# Altium footprint library 排针-排母.PcbLib: 177 footprints (part 8 of 12)
Each footprint in its own frame and in the unit in brackets; x right, y up, seen from the top. Pads: shape width x height; smd on the part's side, far side on the other; paste and mask are expansions set on the pad; w line width, h text height; cw(c..) or ccw(c..) is an arc to the next point about the centre after c.
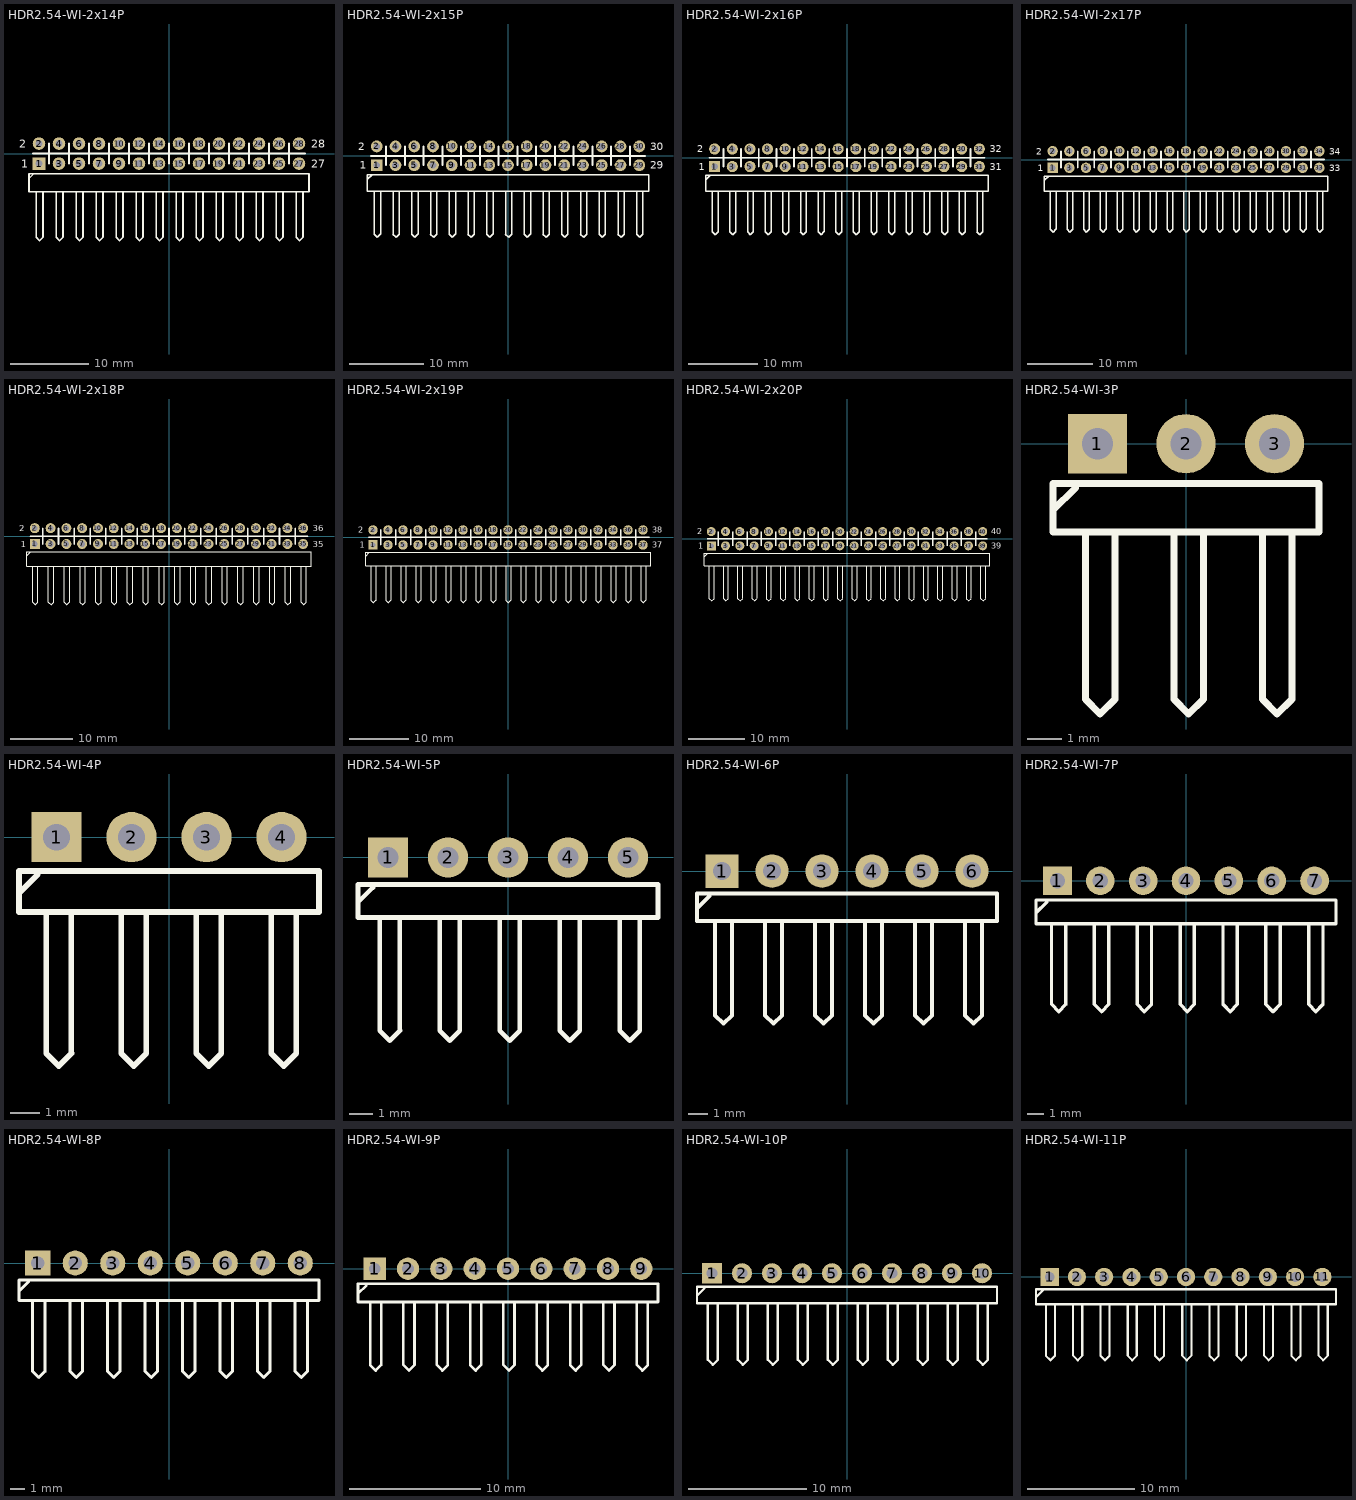
[diagram p7: the footprints below, top view; thin cyan lines are the x and y axes]

## HDR2.54-WI-2x14P [mm] "双排弯脚排针，14x2脚"
pads (28):
  rect 1.6x1.6 hole 0.9: 1(-16.51,-1.27)
  round 1.6 hole 0.9: 2(-16.51,1.27) 3(-13.97,-1.27) 4(-13.97,1.27) 5(-11.43,-1.27) 6(-11.43,1.27) 7(-8.89,-1.27) 8(-8.89,1.27) 9(-6.35,-1.27) 10(-6.35,1.27) 11(-3.81,-1.27) 12(-3.81,1.27) 13(-1.27,-1.27) 14(-1.27,1.27) 15(1.27,-1.27) 16(1.27,1.27) 17(3.81,-1.27) 18(3.81,1.27) 19(6.35,-1.27) 20(6.35,1.27) 21(8.89,-1.27) 22(8.89,1.27) 23(11.43,-1.27) 24(11.43,1.27) 25(13.97,-1.27) 26(13.97,1.27) 27(16.51,-1.27) 28(16.51,1.27)
Top Overlay:
  lines w0.2: -17.78,-3.175 -17.145,-2.54 ; -16.858,-10.634 -16.435,-11.057 -16.011,-10.634 -16.002,-10.625 -16.002,-4.826 ; -16.849,-10.634 -16.849,-4.826 ; -14.318,-10.634 -13.895,-11.057 -13.471,-10.634 ; -14.309,-10.634 -14.309,-4.826 ; -13.462,-10.634 -13.462,-4.826 ; -11.778,-10.634 -11.355,-11.057 -10.931,-10.634 ; -11.769,-10.634 -11.769,-4.826 ; -10.922,-10.634 -10.922,-4.826 ; -9.238,-10.634 -8.815,-11.057 -8.391,-10.634 ; -9.229,-10.634 -9.229,-4.826 ; -8.382,-10.634 -8.382,-4.826 ; -6.698,-10.634 -6.275,-11.057 -5.851,-10.634 ; -6.689,-10.634 -6.689,-4.826 ; -5.842,-10.634 -5.842,-4.826 ; -4.158,-10.634 -3.735,-11.057 -3.311,-10.634 ; -4.149,-10.634 -4.149,-4.826 ; -3.302,-10.634 -3.302,-4.826 ; -1.618,-10.634 -1.195,-11.057 -0.771,-10.634 ; -1.609,-10.634 -1.609,-4.826 ; -0.762,-10.634 -0.762,-4.826 ; 0.922,-10.634 1.345,-11.057 1.769,-10.634 ; 0.931,-10.634 0.931,-4.826 ; 1.778,-10.634 1.778,-4.826 ; 3.462,-10.634 3.885,-11.057 4.309,-10.634 ; 3.471,-10.634 3.471,-4.826 ; 4.318,-10.634 4.318,-4.826 ; 6.002,-10.634 6.425,-11.057 6.849,-10.634 ; 6.011,-10.634 6.011,-4.826 ; 6.858,-10.634 6.858,-4.826 ; 8.542,-10.634 8.965,-11.057 9.389,-10.634 ; 8.551,-10.634 8.551,-4.826 ; 9.398,-10.634 9.398,-4.826 ; 11.082,-10.634 11.505,-11.057 11.929,-10.634 ; 11.091,-10.634 11.091,-4.826 ; 11.938,-10.634 11.938,-4.826 ; 13.622,-10.634 14.045,-11.057 14.469,-10.634 ; 13.631,-10.634 13.631,-4.826 ; 14.478,-10.634 14.478,-4.826 ; 16.162,-10.634 16.585,-11.057 17.009,-10.634 ; 16.171,-10.634 16.171,-4.826 ; 17.018,-10.634 17.018,-4.826 ; -17.78,-4.826 -17.78,-2.54 17.78,-2.54 17.78,-4.826 -17.78,-4.826
  lines w0.254: -17.272,0 17.272,0 ; -15.24,-1.27 -15.24,1.27 ; -12.7,-1.27 -12.7,1.27 ; -10.16,-1.27 -10.16,1.27 ; -7.62,-1.27 -7.62,1.27 ; -5.08,-1.27 -5.08,1.27 ; -2.54,-1.27 -2.54,1.27 ; 0,-1.27 0,1.27 ; 2.54,-1.27 2.54,1.27 ; 5.08,-1.27 5.08,1.27 ; 7.62,-1.27 7.62,1.27 ; 10.16,-1.27 10.16,1.27 ; 12.7,-1.27 12.7,1.27 ; 15.24,-1.27 15.24,1.27
  text "28" at 18.034,0.762 h1.02
  text "27" at 18.034,-1.778 h1.02
  text "1" at -18.796,-1.778 h1.02
  text "2" at -19.05,0.762 h1.02
Bottom Overlay:
  lines w0.254: -17.272,0 17.272,0 ; -15.24,-1.27 -15.24,1.27 ; -12.7,-1.27 -12.7,1.27 ; -10.16,-1.27 -10.16,1.27 ; -7.62,-1.27 -7.62,1.27 ; -5.08,-1.27 -5.08,1.27 ; -2.54,-1.27 -2.54,1.27 ; 0,-1.27 0,1.27 ; 2.54,-1.27 2.54,1.27 ; 5.08,-1.27 5.08,1.27 ; 7.62,-1.27 7.62,1.27 ; 10.16,-1.27 10.16,1.27 ; 12.7,-1.27 12.7,1.27 ; 15.24,-1.27 15.24,1.27
3D body: height 5.1, standoff -3, extent -7.62,-11.23 -5.08,1.62
3D body: height 5.1, standoff -3, extent -12.7,-11.23 -10.16,1.62
3D body: height 5.1, standoff -3, extent -10.16,-11.23 -7.62,1.62
3D body: height 5.1, standoff -3, extent -17.78,-11.23 -15.24,1.62
3D body: height 5.1, standoff -3, extent -15.24,-11.23 -12.7,1.62
3D body: height 5.1, standoff -3, extent 5.08,-11.23 7.62,1.62
3D body: height 5.1, standoff -3, extent 0,-11.23 2.54,1.62
3D body: height 5.1, standoff -3, extent 2.54,-11.23 5.08,1.62
3D body: height 5.1, standoff -3, extent -5.08,-11.23 -2.54,1.62
3D body: height 5.1, standoff -3, extent -2.54,-11.23 0,1.62
3D body: height 5.1, standoff -3, extent 12.7,-11.23 15.24,1.62
3D body: height 5.1, standoff -3, extent 15.24,-11.23 17.78,1.62
3D body: height 5.1, standoff -3, extent 7.62,-11.23 10.16,1.62
3D body: height 5.1, standoff -3, extent 10.16,-11.23 12.7,1.62

## HDR2.54-WI-2x15P [mm] "双排弯脚排针，15x2脚"
pads (30):
  rect 1.6x1.6 hole 0.9: 1(-17.78,-1.27)
  round 1.6 hole 0.9: 2(-17.78,1.27) 3(-15.24,-1.27) 4(-15.24,1.27) 5(-12.7,-1.27) 6(-12.7,1.27) 7(-10.16,-1.27) 8(-10.16,1.27) 9(-7.62,-1.27) 10(-7.62,1.27) 11(-5.08,-1.27) 12(-5.08,1.27) 13(-2.54,-1.27) 14(-2.54,1.27) 15(0,-1.27) 16(0,1.27) 17(2.54,-1.27) 18(2.54,1.27) 19(5.08,-1.27) 20(5.08,1.27) 21(7.62,-1.27) 22(7.62,1.27) 23(10.16,-1.27) 24(10.16,1.27) 25(12.7,-1.27) 26(12.7,1.27) 27(15.24,-1.27) 28(15.24,1.27) 29(17.78,-1.27) 30(17.78,1.27)
Top Overlay:
  lines w0.2: -19.05,-3.175 -18.415,-2.54 ; -18.128,-10.634 -17.705,-11.057 -17.281,-10.634 -17.272,-10.625 -17.272,-4.826 ; -18.119,-10.634 -18.119,-4.826 ; -15.588,-10.634 -15.165,-11.057 -14.741,-10.634 ; -15.579,-10.634 -15.579,-4.826 ; -14.732,-10.634 -14.732,-4.826 ; -13.048,-10.634 -12.625,-11.057 -12.201,-10.634 ; -13.039,-10.634 -13.039,-4.826 ; -12.192,-10.634 -12.192,-4.826 ; -10.508,-10.634 -10.085,-11.057 -9.661,-10.634 ; -10.499,-10.634 -10.499,-4.826 ; -9.652,-10.634 -9.652,-4.826 ; -7.968,-10.634 -7.545,-11.057 -7.121,-10.634 ; -7.959,-10.634 -7.959,-4.826 ; -7.112,-10.634 -7.112,-4.826 ; -5.428,-10.634 -5.005,-11.057 -4.581,-10.634 ; -5.419,-10.634 -5.419,-4.826 ; -4.572,-10.634 -4.572,-4.826 ; -2.888,-10.634 -2.465,-11.057 -2.041,-10.634 ; -2.879,-10.634 -2.879,-4.826 ; -2.032,-10.634 -2.032,-4.826 ; -0.348,-10.634 0.075,-11.057 0.499,-10.634 ; -0.339,-10.634 -0.339,-4.826 ; 0.508,-10.634 0.508,-4.826 ; 2.192,-10.634 2.615,-11.057 3.039,-10.634 ; 2.201,-10.634 2.201,-4.826 ; 3.048,-10.634 3.048,-4.826 ; 4.732,-10.634 5.155,-11.057 5.579,-10.634 ; 4.741,-10.634 4.741,-4.826 ; 5.588,-10.634 5.588,-4.826 ; 7.272,-10.634 7.695,-11.057 8.119,-10.634 ; 7.281,-10.634 7.281,-4.826 ; 8.128,-10.634 8.128,-4.826 ; 9.812,-10.634 10.235,-11.057 10.659,-10.634 ; 9.821,-10.634 9.821,-4.826 ; 10.668,-10.634 10.668,-4.826 ; 12.352,-10.634 12.775,-11.057 13.199,-10.634 ; 12.361,-10.634 12.361,-4.826 ; 13.208,-10.634 13.208,-4.826 ; 14.892,-10.634 15.315,-11.057 15.739,-10.634 ; 14.901,-10.634 14.901,-4.826 ; 15.748,-10.634 15.748,-4.826 ; 17.432,-10.634 17.855,-11.057 18.279,-10.634 ; 17.441,-10.634 17.441,-4.826 ; 18.288,-10.634 18.288,-4.826 ; -19.05,-4.826 19.05,-4.826 19.05,-2.54 -19.05,-2.54 -19.05,-4.826
  lines w0.254: -18.542,0 18.542,0 ; -16.51,-1.27 -16.51,1.27 ; -13.97,-1.27 -13.97,1.27 ; -11.43,-1.27 -11.43,1.27 ; -8.89,-1.27 -8.89,1.27 ; -6.35,-1.27 -6.35,1.27 ; -3.81,-1.27 -3.81,1.27 ; -1.27,-1.27 -1.27,1.27 ; 1.27,-1.27 1.27,1.27 ; 3.81,-1.27 3.81,1.27 ; 6.35,-1.27 6.35,1.27 ; 8.89,-1.27 8.89,1.27 ; 11.43,-1.27 11.43,1.27 ; 13.97,-1.27 13.97,1.27 ; 16.51,-1.27 16.51,1.27 16.51,-1.27
  text "30" at 19.304,0.762 h1.02
  text "29" at 19.304,-1.778 h1.02
  text "2" at -20.32,0.762 h1.02
  text "1" at -20.066,-1.778 h1.02
Bottom Overlay:
  lines w0.254: -18.542,0 18.542,0 ; -16.51,-1.27 -16.51,1.27 ; -13.97,-1.27 -13.97,1.27 ; -11.43,-1.27 -11.43,1.27 ; -8.89,-1.27 -8.89,1.27 ; -6.35,-1.27 -6.35,1.27 ; -3.81,-1.27 -3.81,1.27 ; -1.27,-1.27 -1.27,1.27 ; 1.27,-1.27 1.27,1.27 ; 3.81,-1.27 3.81,1.27 ; 6.35,-1.27 6.35,1.27 ; 8.89,-1.27 8.89,1.27 ; 11.43,-1.27 11.43,1.27 ; 13.97,-1.27 13.97,1.27 ; 16.51,-1.27 16.51,1.27 16.51,-1.27
3D body: height 5.1, standoff -3, extent 8.89,-11.23 11.43,1.62
3D body: height 5.1, standoff -3, extent 6.35,-11.23 8.89,1.62
3D body: height 5.1, standoff -3, extent 13.97,-11.23 16.51,1.62
3D body: height 5.1, standoff -3, extent 11.43,-11.23 13.97,1.62
3D body: height 5.1, standoff -3, extent 16.51,-11.23 19.05,1.62
3D body: height 5.1, standoff -3, extent -3.81,-11.23 -1.27,1.62
3D body: height 5.1, standoff -3, extent -6.35,-11.23 -3.81,1.62
3D body: height 5.1, standoff -3, extent 1.27,-11.23 3.81,1.62
3D body: height 5.1, standoff -3, extent -1.27,-11.23 1.27,1.62
3D body: height 5.1, standoff -3, extent 3.81,-11.23 6.35,1.62
3D body: height 5.1, standoff -3, extent -16.51,-11.23 -13.97,1.62
3D body: height 5.1, standoff -3, extent -19.05,-11.23 -16.51,1.62
3D body: height 5.1, standoff -3, extent -11.43,-11.23 -8.89,1.62
3D body: height 5.1, standoff -3, extent -13.97,-11.23 -11.43,1.62
3D body: height 5.1, standoff -3, extent -8.89,-11.23 -6.35,1.62

## HDR2.54-WI-2x16P [mm] "双排弯脚排针，16x2脚"
pads (32):
  rect 1.6x1.6 hole 0.9: 1(-19.05,-1.27)
  round 1.6 hole 0.9: 2(-19.05,1.27) 3(-16.51,-1.27) 4(-16.51,1.27) 5(-13.97,-1.27) 6(-13.97,1.27) 7(-11.43,-1.27) 8(-11.43,1.27) 9(-8.89,-1.27) 10(-8.89,1.27) 11(-6.35,-1.27) 12(-6.35,1.27) 13(-3.81,-1.27) 14(-3.81,1.27) 15(-1.27,-1.27) 16(-1.27,1.27) 17(1.27,-1.27) 18(1.27,1.27) 19(3.81,-1.27) 20(3.81,1.27) 21(6.35,-1.27) 22(6.35,1.27) 23(8.89,-1.27) 24(8.89,1.27) 25(11.43,-1.27) 26(11.43,1.27) 27(13.97,-1.27) 28(13.97,1.27) 29(16.51,-1.27) 30(16.51,1.27) 31(19.05,-1.27) 32(19.05,1.27)
Top Overlay:
  lines w0.2: -20.32,-3.175 -19.685,-2.54 ; -19.398,-10.634 -18.975,-11.057 -18.551,-10.634 -18.542,-10.625 -18.542,-4.826 ; -19.389,-10.634 -19.389,-4.826 ; -16.858,-10.634 -16.435,-11.057 -16.011,-10.634 ; -16.849,-10.634 -16.849,-4.826 ; -16.002,-10.634 -16.002,-4.826 ; -14.318,-10.634 -13.895,-11.057 -13.471,-10.634 ; -14.309,-10.634 -14.309,-4.826 ; -13.462,-10.634 -13.462,-4.826 ; -11.778,-10.634 -11.355,-11.057 -10.931,-10.634 ; -11.769,-10.634 -11.769,-4.826 ; -10.922,-10.634 -10.922,-4.826 ; -9.238,-10.634 -8.815,-11.057 -8.391,-10.634 ; -9.229,-10.634 -9.229,-4.826 ; -8.382,-10.634 -8.382,-4.826 ; -6.698,-10.634 -6.275,-11.057 -5.851,-10.634 ; -6.689,-10.634 -6.689,-4.826 ; -5.842,-10.634 -5.842,-4.826 ; -4.158,-10.634 -3.735,-11.057 -3.311,-10.634 ; -4.149,-10.634 -4.149,-4.826 ; -3.302,-10.634 -3.302,-4.826 ; -1.618,-10.634 -1.195,-11.057 -0.771,-10.634 ; -1.609,-10.634 -1.609,-4.826 ; -0.762,-10.634 -0.762,-4.826 ; 0.922,-10.634 1.345,-11.057 1.769,-10.634 ; 0.931,-10.634 0.931,-4.826 ; 1.778,-10.634 1.778,-4.826 ; 3.462,-10.634 3.885,-11.057 4.309,-10.634 ; 3.471,-10.634 3.471,-4.826 ; 4.318,-10.634 4.318,-4.826 ; 6.002,-10.634 6.425,-11.057 6.849,-10.634 ; 6.011,-10.634 6.011,-4.826 ; 6.858,-10.634 6.858,-4.826 ; 8.542,-10.634 8.965,-11.057 9.389,-10.634 ; 8.551,-10.634 8.551,-4.826 ; 9.398,-10.634 9.398,-4.826 ; 11.082,-10.634 11.505,-11.057 11.929,-10.634 ; 11.091,-10.634 11.091,-4.826 ; 11.938,-10.634 11.938,-4.826 ; 13.622,-10.634 14.045,-11.057 14.469,-10.634 ; 13.631,-10.634 13.631,-4.826 ; 14.478,-10.634 14.478,-4.826 ; 16.162,-10.634 16.585,-11.057 17.009,-10.634 ; 16.171,-10.634 16.171,-4.826 ; 17.018,-10.634 17.018,-4.826 ; 18.702,-10.634 19.125,-11.057 19.549,-10.634 ; 18.711,-10.634 18.711,-4.826 ; 19.558,-10.634 19.558,-4.826 ; -20.32,-4.826 -20.32,-2.54 20.32,-2.54 20.32,-4.826 -20.32,-4.826
  lines w0.254: -19.812,0 19.812,0 ; -17.78,-1.27 -17.78,1.27 ; -15.24,-1.27 -15.24,1.27 ; -12.7,-1.27 -12.7,1.27 ; -10.16,-1.27 -10.16,1.27 ; -7.62,-1.27 -7.62,1.27 ; -5.08,-1.27 -5.08,1.27 ; -2.54,-1.27 -2.54,1.27 ; 0,-1.27 0,1.27 ; 2.54,-1.27 2.54,1.27 ; 5.08,-1.27 5.08,1.27 ; 7.62,-1.27 7.62,1.27 ; 10.16,-1.27 10.16,1.27 ; 12.7,-1.27 12.7,1.27 ; 17.78,-1.27 17.78,1.27 ; 15.24,-1.27 15.24,1.27 15.24,-1.27
  text "32" at 20.574,0.762 h1.02
  text "31" at 20.574,-1.778 h1.02
  text "1" at -21.336,-1.778 h1.02
  text "2" at -21.59,0.762 h1.02
Bottom Overlay:
  lines w0.254: -19.812,0 19.812,0 ; -17.78,-1.27 -17.78,1.27 ; -15.24,-1.27 -15.24,1.27 ; -12.7,-1.27 -12.7,1.27 ; -10.16,-1.27 -10.16,1.27 ; -7.62,-1.27 -7.62,1.27 ; -5.08,-1.27 -5.08,1.27 ; -2.54,-1.27 -2.54,1.27 ; 0,-1.27 0,1.27 ; 2.54,-1.27 2.54,1.27 ; 5.08,-1.27 5.08,1.27 ; 7.62,-1.27 7.62,1.27 ; 10.16,-1.27 10.16,1.27 ; 12.7,-1.27 12.7,1.27 ; 17.78,-1.27 17.78,1.27 ; 15.24,-1.27 15.24,1.27 15.24,-1.27
3D body: height 5.1, standoff -3, extent -10.16,-11.23 -7.62,1.62
3D body: height 5.1, standoff -3, extent -15.24,-11.23 -12.7,1.62
3D body: height 5.1, standoff -3, extent -12.7,-11.23 -10.16,1.62
3D body: height 5.1, standoff -3, extent -20.32,-11.23 -17.78,1.62
3D body: height 5.1, standoff -3, extent -17.78,-11.23 -15.24,1.62
3D body: height 5.1, standoff -3, extent 2.54,-11.23 5.08,1.62
3D body: height 5.1, standoff -3, extent -2.54,-11.23 0,1.62
3D body: height 5.1, standoff -3, extent 0,-11.23 2.54,1.62
3D body: height 5.1, standoff -3, extent -7.62,-11.23 -5.08,1.62
3D body: height 5.1, standoff -3, extent -5.08,-11.23 -2.54,1.62
3D body: height 5.1, standoff -3, extent 15.24,-11.23 17.78,1.62
3D body: height 5.1, standoff -3, extent 10.16,-11.23 12.7,1.62
3D body: height 5.1, standoff -3, extent 12.7,-11.23 15.24,1.62
3D body: height 5.1, standoff -3, extent 5.08,-11.23 7.62,1.62
3D body: height 5.1, standoff -3, extent 7.62,-11.23 10.16,1.62
3D body: height 5.1, standoff -3, extent 17.78,-11.23 20.32,1.62

## HDR2.54-WI-2x17P [mm] "双排弯脚排针，17x2脚"
pads (34):
  rect 1.6x1.6 hole 0.9: 1(-20.32,-1.27)
  round 1.6 hole 0.9: 2(-20.32,1.27) 3(-17.78,-1.27) 4(-17.78,1.27) 5(-15.24,-1.27) 6(-15.24,1.27) 7(-12.7,-1.27) 8(-12.7,1.27) 9(-10.16,-1.27) 10(-10.16,1.27) 11(-7.62,-1.27) 12(-7.62,1.27) 13(-5.08,-1.27) 14(-5.08,1.27) 15(-2.54,-1.27) 16(-2.54,1.27) 17(0,-1.27) 18(0,1.27) 19(2.54,-1.27) 20(2.54,1.27) 21(5.08,-1.27) 22(5.08,1.27) 23(7.62,-1.27) 24(7.62,1.27) 25(10.16,-1.27) 26(10.16,1.27) 27(12.7,-1.27) 28(12.7,1.27) 29(15.24,-1.27) 30(15.24,1.27) 31(17.78,-1.27) 32(17.78,1.27) 33(20.32,-1.27) 34(20.32,1.27)
Top Overlay:
  lines w0.2: -21.59,-3.175 -20.955,-2.54 ; -20.668,-10.634 -20.245,-11.057 -19.821,-10.634 -19.812,-10.625 -19.812,-4.826 ; -20.659,-10.634 -20.659,-4.826 ; -18.128,-10.634 -17.705,-11.057 -17.281,-10.634 ; -18.119,-10.634 -18.119,-4.826 ; -17.272,-10.634 -17.272,-4.826 ; -15.588,-10.634 -15.165,-11.057 -14.741,-10.634 ; -15.579,-10.634 -15.579,-4.826 ; -14.732,-10.634 -14.732,-4.826 ; -13.048,-10.634 -12.625,-11.057 -12.201,-10.634 ; -13.039,-10.634 -13.039,-4.826 ; -12.192,-10.634 -12.192,-4.826 ; -10.508,-10.634 -10.085,-11.057 -9.661,-10.634 ; -10.499,-10.634 -10.499,-4.826 ; -9.652,-10.634 -9.652,-4.826 ; -7.968,-10.634 -7.545,-11.057 -7.121,-10.634 ; -7.959,-10.634 -7.959,-4.826 ; -7.112,-10.634 -7.112,-4.826 ; -5.428,-10.634 -5.005,-11.057 -4.581,-10.634 ; -5.419,-10.634 -5.419,-4.826 ; -4.572,-10.634 -4.572,-4.826 ; -2.888,-10.634 -2.465,-11.057 -2.041,-10.634 ; -2.879,-10.634 -2.879,-4.826 ; -2.032,-10.634 -2.032,-4.826 ; -0.348,-10.634 0.075,-11.057 0.499,-10.634 ; -0.339,-10.634 -0.339,-4.826 ; 0.508,-10.634 0.508,-4.826 ; 2.192,-10.634 2.615,-11.057 3.039,-10.634 ; 2.201,-10.634 2.201,-4.826 ; 3.048,-10.634 3.048,-4.826 ; 4.732,-10.634 5.155,-11.057 5.579,-10.634 ; 4.741,-10.634 4.741,-4.826 ; 5.588,-10.634 5.588,-4.826 ; 7.272,-10.634 7.695,-11.057 8.119,-10.634 ; 7.281,-10.634 7.281,-4.826 ; 8.128,-10.634 8.128,-4.826 ; 9.812,-10.634 10.235,-11.057 10.659,-10.634 ; 9.821,-10.634 9.821,-4.826 ; 10.668,-10.634 10.668,-4.826 ; 12.352,-10.634 12.775,-11.057 13.199,-10.634 ; 12.361,-10.634 12.361,-4.826 ; 13.208,-10.634 13.208,-4.826 ; 14.892,-10.634 15.315,-11.057 15.739,-10.634 ; 14.901,-10.634 14.901,-4.826 ; 15.748,-10.634 15.748,-4.826 ; 17.432,-10.634 17.855,-11.057 18.279,-10.634 ; 17.441,-10.634 17.441,-4.826 ; 18.288,-10.634 18.288,-4.826 ; 19.972,-10.634 20.395,-11.057 20.819,-10.634 ; 19.981,-10.634 19.981,-4.826 ; 20.828,-10.634 20.828,-4.826 ; -21.59,-4.826 21.59,-4.826 21.59,-2.54 -21.59,-2.54 -21.59,-4.826
  lines w0.254: -21.082,0 21.082,0 ; -19.05,-1.27 -19.05,1.27 ; -16.51,-1.27 -16.51,1.27 ; -13.97,-1.27 -13.97,1.27 ; -11.43,-1.27 -11.43,1.27 ; -8.89,-1.27 -8.89,1.27 ; -6.35,-1.27 -6.35,1.27 ; -3.81,-1.27 -3.81,1.27 ; -1.27,-1.27 -1.27,1.27 ; 1.27,-1.27 1.27,1.27 ; 3.81,-1.27 3.81,1.27 ; 6.35,-1.27 6.35,1.27 ; 8.89,-1.27 8.89,1.27 ; 11.43,-1.27 11.43,1.27 ; 16.51,-1.27 16.51,1.27 ; 19.05,-1.27 19.05,1.27 ; 13.97,-1.27 13.97,1.27 13.97,-1.27
  text "2" at -22.86,0.762 h1.02
  text "1" at -22.606,-1.778 h1.02
  text "33" at 21.844,-1.778 h1.02
  text "34" at 21.844,0.762 h1.02
Bottom Overlay:
  lines w0.254: -21.082,0 21.082,0 ; -19.05,-1.27 -19.05,1.27 ; -16.51,-1.27 -16.51,1.27 ; -13.97,-1.27 -13.97,1.27 ; -11.43,-1.27 -11.43,1.27 ; -8.89,-1.27 -8.89,1.27 ; -6.35,-1.27 -6.35,1.27 ; -3.81,-1.27 -3.81,1.27 ; -1.27,-1.27 -1.27,1.27 ; 1.27,-1.27 1.27,1.27 ; 3.81,-1.27 3.81,1.27 ; 6.35,-1.27 6.35,1.27 ; 8.89,-1.27 8.89,1.27 ; 11.43,-1.27 11.43,1.27 ; 16.51,-1.27 16.51,1.27 ; 19.05,-1.27 19.05,1.27 ; 13.97,-1.27 13.97,1.27 13.97,-1.27
3D body: height 5.1, standoff -3, extent 19.05,-11.23 21.59,1.62
3D body: height 5.1, standoff -3, extent 16.51,-11.23 19.05,1.62
3D body: height 5.1, standoff -3, extent 6.35,-11.23 8.89,1.62
3D body: height 5.1, standoff -3, extent 3.81,-11.23 6.35,1.62
3D body: height 5.1, standoff -3, extent 11.43,-11.23 13.97,1.62
3D body: height 5.1, standoff -3, extent 8.89,-11.23 11.43,1.62
3D body: height 5.1, standoff -3, extent 13.97,-11.23 16.51,1.62
3D body: height 5.1, standoff -3, extent -6.35,-11.23 -3.81,1.62
3D body: height 5.1, standoff -3, extent -8.89,-11.23 -6.35,1.62
3D body: height 5.1, standoff -3, extent -1.27,-11.23 1.27,1.62
3D body: height 5.1, standoff -3, extent -3.81,-11.23 -1.27,1.62
3D body: height 5.1, standoff -3, extent 1.27,-11.23 3.81,1.62
3D body: height 5.1, standoff -3, extent -19.05,-11.23 -16.51,1.62
3D body: height 5.1, standoff -3, extent -21.59,-11.23 -19.05,1.62
3D body: height 5.1, standoff -3, extent -13.97,-11.23 -11.43,1.62
3D body: height 5.1, standoff -3, extent -16.51,-11.23 -13.97,1.62
3D body: height 5.1, standoff -3, extent -11.43,-11.23 -8.89,1.62

## HDR2.54-WI-2x18P [mm] "双排弯脚排针，18x2脚"
pads (36):
  rect 1.6x1.6 hole 0.9: 1(-21.59,-1.27)
  round 1.6 hole 0.9: 2(-21.59,1.27) 3(-19.05,-1.27) 4(-19.05,1.27) 5(-16.51,-1.27) 6(-16.51,1.27) 7(-13.97,-1.27) 8(-13.97,1.27) 9(-11.43,-1.27) 10(-11.43,1.27) 11(-8.89,-1.27) 12(-8.89,1.27) 13(-6.35,-1.27) 14(-6.35,1.27) 15(-3.81,-1.27) 16(-3.81,1.27) 17(-1.27,-1.27) 18(-1.27,1.27) 19(1.27,-1.27) 20(1.27,1.27) 21(3.81,-1.27) 22(3.81,1.27) 23(6.35,-1.27) 24(6.35,1.27) 25(8.89,-1.27) 26(8.89,1.27) 27(11.43,-1.27) 28(11.43,1.27) 29(13.97,-1.27) 30(13.97,1.27) 31(16.51,-1.27) 32(16.51,1.27) 33(19.05,-1.27) 34(19.05,1.27) 35(21.59,-1.27) 36(21.59,1.27)
Top Overlay:
  lines w0.2: -22.86,-3.175 -22.225,-2.54 ; -21.938,-10.634 -21.515,-11.057 -21.091,-10.634 -21.082,-10.625 -21.082,-4.826 ; -21.929,-10.634 -21.929,-4.826 ; -19.398,-10.634 -18.975,-11.057 -18.551,-10.634 ; -19.389,-10.634 -19.389,-4.826 ; -18.542,-10.634 -18.542,-4.826 ; -16.858,-10.634 -16.435,-11.057 -16.011,-10.634 ; -16.849,-10.634 -16.849,-4.826 ; -16.002,-10.634 -16.002,-4.826 ; -14.318,-10.634 -13.895,-11.057 -13.471,-10.634 ; -14.309,-10.634 -14.309,-4.826 ; -13.462,-10.634 -13.462,-4.826 ; -11.778,-10.634 -11.355,-11.057 -10.931,-10.634 ; -11.769,-10.634 -11.769,-4.826 ; -10.922,-10.634 -10.922,-4.826 ; -9.238,-10.634 -8.815,-11.057 -8.391,-10.634 ; -9.229,-10.634 -9.229,-4.826 ; -8.382,-10.634 -8.382,-4.826 ; -6.698,-10.634 -6.275,-11.057 -5.851,-10.634 ; -6.689,-10.634 -6.689,-4.826 ; -5.842,-10.634 -5.842,-4.826 ; -4.158,-10.634 -3.735,-11.057 -3.311,-10.634 ; -4.149,-10.634 -4.149,-4.826 ; -3.302,-10.634 -3.302,-4.826 ; -1.618,-10.634 -1.195,-11.057 -0.771,-10.634 ; -1.609,-10.634 -1.609,-4.826 ; -0.762,-10.634 -0.762,-4.826 ; 0.922,-10.634 1.345,-11.057 1.769,-10.634 ; 0.931,-10.634 0.931,-4.826 ; 1.778,-10.634 1.778,-4.826 ; 3.462,-10.634 3.885,-11.057 4.309,-10.634 ; 3.471,-10.634 3.471,-4.826 ; 4.318,-10.634 4.318,-4.826 ; 6.002,-10.634 6.425,-11.057 6.849,-10.634 ; 6.011,-10.634 6.011,-4.826 ; 6.858,-10.634 6.858,-4.826 ; 8.542,-10.634 8.965,-11.057 9.389,-10.634 ; 8.551,-10.634 8.551,-4.826 ; 9.398,-10.634 9.398,-4.826 ; 11.082,-10.634 11.505,-11.057 11.929,-10.634 ; 11.091,-10.634 11.091,-4.826 ; 11.938,-10.634 11.938,-4.826 ; 13.622,-10.634 14.045,-11.057 14.469,-10.634 ; 13.631,-10.634 13.631,-4.826 ; 14.478,-10.634 14.478,-4.826 ; 16.162,-10.634 16.585,-11.057 17.009,-10.634 ; 16.171,-10.634 16.171,-4.826 ; 17.018,-10.634 17.018,-4.826 ; 18.702,-10.634 19.125,-11.057 19.549,-10.634 ; 18.711,-10.634 18.711,-4.826 ; 19.558,-10.634 19.558,-4.826 ; 21.242,-10.634 21.665,-11.057 22.089,-10.634 ; 21.251,-10.634 21.251,-4.826 ; 22.098,-10.634 22.098,-4.826 ; -22.86,-4.826 -22.86,-2.54 22.86,-2.54 22.86,-4.826 -22.86,-4.826
  lines w0.254: -22.352,0 22.352,0 ; -20.32,-1.27 -20.32,1.27 ; -17.78,-1.27 -17.78,1.27 ; -15.24,-1.27 -15.24,1.27 ; -12.7,-1.27 -12.7,1.27 ; -10.16,-1.27 -10.16,1.27 ; -7.62,-1.27 -7.62,1.27 ; -5.08,-1.27 -5.08,1.27 ; -2.54,-1.27 -2.54,1.27 ; 0,-1.27 0,1.27 ; 2.54,-1.27 2.54,1.27 ; 5.08,-1.27 5.08,1.27 ; 7.62,-1.27 7.62,1.27 ; 10.16,-1.27 10.16,1.27 ; 15.24,-1.27 15.24,1.27 ; 17.78,-1.27 17.78,1.27 ; 12.7,-1.27 12.7,1.27 12.7,-1.27 ; 20.32,-1.27 20.32,1.27 20.32,-1.27
  text "36" at 23.114,0.762 h1.02
  text "35" at 23.114,-1.778 h1.02
  text "1" at -23.876,-1.778 h1.02
  text "2" at -24.13,0.762 h1.02
Bottom Overlay:
  lines w0.254: -22.352,0 22.352,0 ; -20.32,-1.27 -20.32,1.27 ; -17.78,-1.27 -17.78,1.27 ; -15.24,-1.27 -15.24,1.27 ; -12.7,-1.27 -12.7,1.27 ; -10.16,-1.27 -10.16,1.27 ; -7.62,-1.27 -7.62,1.27 ; -5.08,-1.27 -5.08,1.27 ; -2.54,-1.27 -2.54,1.27 ; 0,-1.27 0,1.27 ; 2.54,-1.27 2.54,1.27 ; 5.08,-1.27 5.08,1.27 ; 7.62,-1.27 7.62,1.27 ; 10.16,-1.27 10.16,1.27 ; 15.24,-1.27 15.24,1.27 ; 17.78,-1.27 17.78,1.27 ; 12.7,-1.27 12.7,1.27 12.7,-1.27 ; 20.32,-1.27 20.32,1.27 20.32,-1.27
3D body: height 5.1, standoff -3, extent -12.7,-11.23 -10.16,1.62
3D body: height 5.1, standoff -3, extent -17.78,-11.23 -15.24,1.62
3D body: height 5.1, standoff -3, extent -15.24,-11.23 -12.7,1.62
3D body: height 5.1, standoff -3, extent -22.86,-11.23 -20.32,1.62
3D body: height 5.1, standoff -3, extent -20.32,-11.23 -17.78,1.62
3D body: height 5.1, standoff -3, extent 0,-11.23 2.54,1.62
3D body: height 5.1, standoff -3, extent -5.08,-11.23 -2.54,1.62
3D body: height 5.1, standoff -3, extent -2.54,-11.23 0,1.62
3D body: height 5.1, standoff -3, extent -10.16,-11.23 -7.62,1.62
3D body: height 5.1, standoff -3, extent -7.62,-11.23 -5.08,1.62
3D body: height 5.1, standoff -3, extent 12.7,-11.23 15.24,1.62
3D body: height 5.1, standoff -3, extent 7.62,-11.23 10.16,1.62
3D body: height 5.1, standoff -3, extent 10.16,-11.23 12.7,1.62
3D body: height 5.1, standoff -3, extent 2.54,-11.23 5.08,1.62
3D body: height 5.1, standoff -3, extent 5.08,-11.23 7.62,1.62
3D body: height 5.1, standoff -3, extent 20.32,-11.23 22.86,1.62
3D body: height 5.1, standoff -3, extent 15.24,-11.23 17.78,1.62
3D body: height 5.1, standoff -3, extent 17.78,-11.23 20.32,1.62

## HDR2.54-WI-2x19P [mm] "双排弯脚排针，19x2脚"
pads (38):
  rect 1.6x1.6 hole 0.9: 1(-22.86,-1.27)
  round 1.6 hole 0.9: 2(-22.86,1.27) 3(-20.32,-1.27) 4(-20.32,1.27) 5(-17.78,-1.27) 6(-17.78,1.27) 7(-15.24,-1.27) 8(-15.24,1.27) 9(-12.7,-1.27) 10(-12.7,1.27) 11(-10.16,-1.27) 12(-10.16,1.27) 13(-7.62,-1.27) 14(-7.62,1.27) 15(-5.08,-1.27) 16(-5.08,1.27) 17(-2.54,-1.27) 18(-2.54,1.27) 19(0,-1.27) 20(0,1.27) 21(2.54,-1.27) 22(2.54,1.27) 23(5.08,-1.27) 24(5.08,1.27) 25(7.62,-1.27) 26(7.62,1.27) 27(10.16,-1.27) 28(10.16,1.27) 29(12.7,-1.27) 30(12.7,1.27) 31(15.24,-1.27) 32(15.24,1.27) 33(17.78,-1.27) 34(17.78,1.27) 35(20.32,-1.27) 36(20.32,1.27) 37(22.86,-1.27) 38(22.86,1.27)
Top Overlay:
  lines w0.2: -24.13,-3.175 -23.495,-2.54 ; -23.208,-10.634 -22.785,-11.057 -22.361,-10.634 -22.352,-10.625 -22.352,-4.826 ; -23.199,-10.634 -23.199,-4.826 ; -20.668,-10.634 -20.245,-11.057 -19.821,-10.634 ; -20.659,-10.634 -20.659,-4.826 ; -19.812,-10.634 -19.812,-4.826 ; -18.128,-10.634 -17.705,-11.057 -17.281,-10.634 ; -18.119,-10.634 -18.119,-4.826 ; -17.272,-10.634 -17.272,-4.826 ; -15.588,-10.634 -15.165,-11.057 -14.741,-10.634 ; -15.579,-10.634 -15.579,-4.826 ; -14.732,-10.634 -14.732,-4.826 ; -13.048,-10.634 -12.625,-11.057 -12.201,-10.634 ; -13.039,-10.634 -13.039,-4.826 ; -12.192,-10.634 -12.192,-4.826 ; -10.508,-10.634 -10.085,-11.057 -9.661,-10.634 ; -10.499,-10.634 -10.499,-4.826 ; -9.652,-10.634 -9.652,-4.826 ; -7.968,-10.634 -7.545,-11.057 -7.121,-10.634 ; -7.959,-10.634 -7.959,-4.826 ; -7.112,-10.634 -7.112,-4.826 ; -5.428,-10.634 -5.005,-11.057 -4.581,-10.634 ; -5.419,-10.634 -5.419,-4.826 ; -4.572,-10.634 -4.572,-4.826 ; -2.888,-10.634 -2.465,-11.057 -2.041,-10.634 ; -2.879,-10.634 -2.879,-4.826 ; -2.032,-10.634 -2.032,-4.826 ; -0.348,-10.634 0.075,-11.057 0.499,-10.634 ; -0.339,-10.634 -0.339,-4.826 ; 0.508,-10.634 0.508,-4.826 ; 2.192,-10.634 2.615,-11.057 3.039,-10.634 ; 2.201,-10.634 2.201,-4.826 ; 3.048,-10.634 3.048,-4.826 ; 4.732,-10.634 5.155,-11.057 5.579,-10.634 ; 4.741,-10.634 4.741,-4.826 ; 5.588,-10.634 5.588,-4.826 ; 7.272,-10.634 7.695,-11.057 8.119,-10.634 ; 7.281,-10.634 7.281,-4.826 ; 8.128,-10.634 8.128,-4.826 ; 9.812,-10.634 10.235,-11.057 10.659,-10.634 ; 9.821,-10.634 9.821,-4.826 ; 10.668,-10.634 10.668,-4.826 ; 12.352,-10.634 12.775,-11.057 13.199,-10.634 ; 12.361,-10.634 12.361,-4.826 ; 13.208,-10.634 13.208,-4.826 ; 14.892,-10.634 15.315,-11.057 15.739,-10.634 ; 14.901,-10.634 14.901,-4.826 ; 15.748,-10.634 15.748,-4.826 ; 17.432,-10.634 17.855,-11.057 18.279,-10.634 ; 17.441,-10.634 17.441,-4.826 ; 18.288,-10.634 18.288,-4.826 ; 19.972,-10.634 20.395,-11.057 20.819,-10.634 ; 19.981,-10.634 19.981,-4.826 ; 20.828,-10.634 20.828,-4.826 ; 22.512,-10.634 22.935,-11.057 23.359,-10.634 ; 22.521,-10.634 22.521,-4.826 ; 23.368,-10.634 23.368,-4.826 ; -24.13,-4.826 24.13,-4.826 24.13,-2.54 -24.13,-2.54 -24.13,-4.826
  lines w0.254: -23.622,0 23.876,0 ; -21.59,-1.27 -21.59,1.27 ; -19.05,-1.27 -19.05,1.27 ; -16.51,-1.27 -16.51,1.27 ; -13.97,-1.27 -13.97,1.27 ; -11.43,-1.27 -11.43,1.27 ; -8.89,-1.27 -8.89,1.27 ; -6.35,-1.27 -6.35,1.27 ; -3.81,-1.27 -3.81,1.27 ; -1.27,-1.27 -1.27,1.27 ; 1.27,-1.27 1.27,1.27 ; 3.81,-1.27 3.81,1.27 ; 6.35,-1.27 6.35,1.27 ; 8.89,-1.27 8.89,1.27 ; 13.97,-1.27 13.97,1.27 ; 16.51,-1.27 16.51,1.27 ; 21.59,-1.27 21.59,1.27 ; 11.43,-1.27 11.43,1.27 11.43,-1.27 ; 19.05,-1.27 19.05,1.27 19.05,-1.27
  text "2" at -25.4,0.762 h1.02
  text "1" at -25.146,-1.778 h1.02
  text "37" at 24.384,-1.778 h1.02
  text "38" at 24.384,0.762 h1.02
Bottom Overlay:
  lines w0.254: -23.622,0 23.876,0 ; -21.59,-1.27 -21.59,1.27 ; -19.05,-1.27 -19.05,1.27 ; -16.51,-1.27 -16.51,1.27 ; -13.97,-1.27 -13.97,1.27 ; -11.43,-1.27 -11.43,1.27 ; -8.89,-1.27 -8.89,1.27 ; -6.35,-1.27 -6.35,1.27 ; -3.81,-1.27 -3.81,1.27 ; -1.27,-1.27 -1.27,1.27 ; 1.27,-1.27 1.27,1.27 ; 3.81,-1.27 3.81,1.27 ; 6.35,-1.27 6.35,1.27 ; 8.89,-1.27 8.89,1.27 ; 13.97,-1.27 13.97,1.27 ; 16.51,-1.27 16.51,1.27 ; 21.59,-1.27 21.59,1.27 ; 11.43,-1.27 11.43,1.27 11.43,-1.27 ; 19.05,-1.27 19.05,1.27 19.05,-1.27
3D body: height 5.1, standoff -3, extent 16.51,-11.23 19.05,1.62
3D body: height 5.1, standoff -3, extent 13.97,-11.23 16.51,1.62
3D body: height 5.1, standoff -3, extent 21.59,-11.23 24.13,1.62
3D body: height 5.1, standoff -3, extent 19.05,-11.23 21.59,1.62
3D body: height 5.1, standoff -3, extent 3.81,-11.23 6.35,1.62
3D body: height 5.1, standoff -3, extent 1.27,-11.23 3.81,1.62
3D body: height 5.1, standoff -3, extent 8.89,-11.23 11.43,1.62
3D body: height 5.1, standoff -3, extent 6.35,-11.23 8.89,1.62
3D body: height 5.1, standoff -3, extent 11.43,-11.23 13.97,1.62
3D body: height 5.1, standoff -3, extent -8.89,-11.23 -6.35,1.62
3D body: height 5.1, standoff -3, extent -11.43,-11.23 -8.89,1.62
3D body: height 5.1, standoff -3, extent -3.81,-11.23 -1.27,1.62
3D body: height 5.1, standoff -3, extent -6.35,-11.23 -3.81,1.62
3D body: height 5.1, standoff -3, extent -1.27,-11.23 1.27,1.62
3D body: height 5.1, standoff -3, extent -21.59,-11.23 -19.05,1.62
3D body: height 5.1, standoff -3, extent -24.13,-11.23 -21.59,1.62
3D body: height 5.1, standoff -3, extent -16.51,-11.23 -13.97,1.62
3D body: height 5.1, standoff -3, extent -19.05,-11.23 -16.51,1.62
3D body: height 5.1, standoff -3, extent -13.97,-11.23 -11.43,1.62

## HDR2.54-WI-2x20P [mm] "双排弯脚排针，20x2脚"
pads (40):
  rect 1.6x1.6 hole 0.9: 1(-24.13,-1.27)
  round 1.6 hole 0.9: 2(-24.13,1.27) 3(-21.59,-1.27) 4(-21.59,1.27) 5(-19.05,-1.27) 6(-19.05,1.27) 7(-16.51,-1.27) 8(-16.51,1.27) 9(-13.97,-1.27) 10(-13.97,1.27) 11(-11.43,-1.27) 12(-11.43,1.27) 13(-8.89,-1.27) 14(-8.89,1.27) 15(-6.35,-1.27) 16(-6.35,1.27) 17(-3.81,-1.27) 18(-3.81,1.27) 19(-1.27,-1.27) 20(-1.27,1.27) 21(1.27,-1.27) 22(1.27,1.27) 23(3.81,-1.27) 24(3.81,1.27) 25(6.35,-1.27) 26(6.35,1.27) 27(8.89,-1.27) 28(8.89,1.27) 29(11.43,-1.27) 30(11.43,1.27) 31(13.97,-1.27) 32(13.97,1.27) 33(16.51,-1.27) 34(16.51,1.27) 35(19.05,-1.27) 36(19.05,1.27) 37(21.59,-1.27) 38(21.59,1.27) 39(24.13,-1.27) 40(24.13,1.27)
Top Overlay:
  lines w0.2: -25.4,-3.175 -24.765,-2.54 ; -24.478,-10.634 -24.055,-11.057 -23.631,-10.634 -23.622,-10.625 -23.622,-4.826 ; -24.469,-10.634 -24.469,-4.826 ; -21.938,-10.634 -21.515,-11.057 -21.091,-10.634 ; -21.929,-10.634 -21.929,-4.826 ; -21.082,-10.634 -21.082,-4.826 ; -19.398,-10.634 -18.975,-11.057 -18.551,-10.634 ; -19.389,-10.634 -19.389,-4.826 ; -18.542,-10.625 -18.542,-4.826 ; -16.858,-10.634 -16.435,-11.057 -16.011,-10.634 ; -16.849,-10.634 -16.849,-4.826 ; -16.002,-10.625 -16.002,-4.826 ; -14.318,-10.634 -13.895,-11.057 -13.471,-10.634 ; -14.309,-10.634 -14.309,-4.826 ; -13.462,-10.625 -13.462,-4.826 ; -11.778,-10.634 -11.355,-11.057 -10.931,-10.634 ; -11.769,-10.634 -11.769,-4.826 ; -10.922,-10.625 -10.922,-4.826 ; -9.238,-10.634 -8.815,-11.057 -8.391,-10.634 ; -9.229,-10.634 -9.229,-4.826 ; -8.382,-10.625 -8.382,-4.826 ; -6.698,-10.634 -6.275,-11.057 -5.851,-10.634 ; -6.689,-10.634 -6.689,-4.826 ; -5.842,-10.625 -5.842,-4.826 ; -4.158,-10.634 -3.735,-11.057 -3.311,-10.634 ; -4.149,-10.634 -4.149,-4.826 ; -3.302,-10.625 -3.302,-4.826 ; 0.922,-10.634 1.345,-11.057 1.769,-10.634 ; 0.931,-10.634 0.931,-4.826 ; 1.778,-10.625 1.778,-4.826 ; 3.462,-10.634 3.885,-11.057 4.309,-10.634 ; 3.471,-10.634 3.471,-4.826 ; 4.318,-10.625 4.318,-4.826 ; 6.002,-10.634 6.425,-11.057 6.849,-10.634 ; 6.011,-10.634 6.011,-4.826 ; 6.858,-10.625 6.858,-4.826 ; 8.542,-10.634 8.965,-11.057 9.389,-10.634 ; 8.551,-10.634 8.551,-4.826 ; 9.398,-10.625 9.398,-4.826 ; 11.082,-10.634 11.505,-11.057 11.929,-10.634 ; 11.091,-10.634 11.091,-4.826 ; 11.938,-10.625 11.938,-4.826 ; 13.622,-10.634 14.045,-11.057 14.469,-10.634 ; 13.631,-10.634 13.631,-4.826 ; 14.478,-10.625 14.478,-4.826 ; 16.162,-10.634 16.585,-11.057 17.009,-10.634 ; 16.171,-10.634 16.171,-4.826 ; 17.018,-10.625 17.018,-4.826 ; 18.702,-10.634 19.125,-11.057 19.549,-10.634 ; 18.711,-10.634 18.711,-4.826 ; 19.558,-10.625 19.558,-4.826 ; 21.242,-10.634 21.665,-11.057 22.089,-10.634 ; 21.251,-10.634 21.251,-4.826 ; 22.098,-10.625 22.098,-4.826 ; 23.782,-10.634 24.205,-11.057 24.629,-10.634 ; 23.791,-10.634 23.791,-4.826 ; 24.638,-10.625 24.638,-4.826 ; -1.195,-11.057 -0.771,-10.634 -1.195,-11.057 ; -1.195,-11.057 -1.618,-10.634 -1.195,-11.057 ; -25.4,-4.826 25.4,-4.826 25.4,-2.54 -25.4,-2.54 -25.4,-4.826 ; -1.609,-10.634 -1.609,-4.826 -1.609,-10.634 ; -0.762,-10.625 -0.762,-4.826 -0.762,-10.625
  lines w0.254: -24.892,0 24.892,0 ; -22.86,-1.27 -22.86,1.27 ; -20.32,-1.27 -20.32,1.27 ; -17.78,-1.27 -17.78,1.27 ; -15.24,-1.27 -15.24,1.27 ; -12.7,-1.27 -12.7,1.27 ; -10.16,-1.27 -10.16,1.27 ; -7.62,-1.27 -7.62,1.27 ; -5.08,-1.27 -5.08,1.27 ; -2.54,-1.27 -2.54,1.27 ; 0,-1.27 0,1.27 ; 2.54,-1.27 2.54,1.27 ; 5.08,-1.27 5.08,1.27 ; 7.62,-1.27 7.62,1.27 ; 10.16,-1.27 10.16,1.27 ; 12.7,-1.27 12.7,1.27 ; 15.24,-1.27 15.24,1.27 ; 17.78,-1.27 17.78,1.27 ; 20.32,-1.27 20.32,1.27 ; 22.86,-1.27 22.86,1.27
  text "39" at 25.654,-1.778 h1.02
  text "40" at 25.654,0.762 h1.02
  text "2" at -26.67,0.762 h1.02
  text "1" at -26.416,-1.778 h1.02
Bottom Overlay:
  lines w0.254: -24.892,0 24.892,0 ; -22.86,-1.27 -22.86,1.27 ; -20.32,-1.27 -20.32,1.27 ; -17.78,-1.27 -17.78,1.27 ; -15.24,-1.27 -15.24,1.27 ; -12.7,-1.27 -12.7,1.27 ; -10.16,-1.27 -10.16,1.27 ; -7.62,-1.27 -7.62,1.27 ; -5.08,-1.27 -5.08,1.27 ; -2.54,-1.27 -2.54,1.27 ; 0,-1.27 0,1.27 ; 2.54,-1.27 2.54,1.27 ; 5.08,-1.27 5.08,1.27 ; 7.62,-1.27 7.62,1.27 ; 10.16,-1.27 10.16,1.27 ; 12.7,-1.27 12.7,1.27 ; 15.24,-1.27 15.24,1.27 ; 17.78,-1.27 17.78,1.27 ; 20.32,-1.27 20.32,1.27 ; 22.86,-1.27 22.86,1.27
3D body: height 5.1, standoff -3, extent -15.24,-11.23 -12.7,1.62
3D body: height 5.1, standoff -3, extent -20.32,-11.23 -17.78,1.62
3D body: height 5.1, standoff -3, extent -17.78,-11.23 -15.24,1.62
3D body: height 5.1, standoff -3, extent -25.4,-11.23 -22.86,1.62
3D body: height 5.1, standoff -3, extent -22.86,-11.23 -20.32,1.62
3D body: height 5.1, standoff -3, extent -2.54,-11.23 0,1.62
3D body: height 5.1, standoff -3, extent -7.62,-11.23 -5.08,1.62
3D body: height 5.1, standoff -3, extent -5.08,-11.23 -2.54,1.62
3D body: height 5.1, standoff -3, extent -12.7,-11.23 -10.16,1.62
3D body: height 5.1, standoff -3, extent -10.16,-11.23 -7.62,1.62
3D body: height 5.1, standoff -3, extent 10.16,-11.23 12.7,1.62
3D body: height 5.1, standoff -3, extent 5.08,-11.23 7.62,1.62
3D body: height 5.1, standoff -3, extent 7.62,-11.23 10.16,1.62
3D body: height 5.1, standoff -3, extent 0,-11.23 2.54,1.62
3D body: height 5.1, standoff -3, extent 2.54,-11.23 5.08,1.62
3D body: height 5.1, standoff -3, extent 22.86,-11.23 25.4,1.62
3D body: height 5.1, standoff -3, extent 17.78,-11.23 20.32,1.62
3D body: height 5.1, standoff -3, extent 20.32,-11.23 22.86,1.62
3D body: height 5.1, standoff -3, extent 12.7,-11.23 15.24,1.62
3D body: height 5.1, standoff -3, extent 15.24,-11.23 17.78,1.62

## HDR2.54-WI-3P [mm] "弯脚排针，3脚"
pads (3):
  rect 1.7x1.7 hole 0.9: 1(-2.54,0)
  round 1.7 hole 0.9: 2(0,0) 3(2.54,0)
Top Overlay:
  lines w0.2: -3.81,-1.905 -3.175,-1.27 ; -2.888,-2.54 -2.888,-7.332 -2.465,-7.755 -2.041,-7.332 -2.032,-7.323 ; -2.041,-7.323 -2.041,-2.54 ; -0.348,-2.54 -0.348,-7.332 0.075,-7.755 0.499,-7.332 ; 0.499,-7.323 0.499,-2.54 ; 2.192,-2.54 2.192,-7.332 2.615,-7.755 3.039,-7.332 ; 3.039,-7.323 3.039,-2.54 ; -3.81,-2.54 3.81,-2.54 3.81,-1.143 -2.032,-1.143 -3.81,-1.143 -3.81,-2.54
3D body: height 4.85, standoff -3, extent -3.81,-7.77 -1.27,1.27
3D body: height 4.85, standoff -3, extent -1.27,-7.77 1.27,1.27
3D body: height 4.85, standoff -3, extent 1.27,-7.77 3.81,1.27

## HDR2.54-WI-4P [mm] "弯脚排针，4脚"
pads (4):
  rect 1.7x1.7 hole 0.9: 1(-3.81,0)
  round 1.7 hole 0.9: 2(-1.27,0) 3(1.27,0) 4(3.81,0)
Top Overlay:
  lines w0.2: -5.08,-1.905 -4.445,-1.27 ; -4.158,-2.54 -4.158,-7.332 -3.735,-7.755 -3.311,-7.332 -3.302,-7.323 ; -3.311,-7.323 -3.311,-2.54 ; -1.618,-2.54 -1.618,-7.332 -1.195,-7.755 -0.771,-7.332 ; -0.771,-7.323 -0.771,-2.54 ; 0.922,-2.54 0.922,-7.332 1.345,-7.755 1.769,-7.332 ; 1.769,-7.323 1.769,-2.54 ; 3.462,-2.54 3.462,-7.332 3.885,-7.755 4.309,-7.332 ; 4.309,-7.323 4.309,-2.54 ; -5.08,-2.54 -5.08,-1.143 -3.302,-1.143 5.08,-1.143 5.08,-2.54 -5.08,-2.54
3D body: height 4.85, standoff -3, extent -5.08,-7.77 -2.54,1.27
3D body: height 4.85, standoff -3, extent -2.54,-7.77 0,1.27
3D body: height 4.85, standoff -3, extent 0,-7.77 2.54,1.27
3D body: height 4.85, standoff -3, extent 2.54,-7.77 5.08,1.27

## HDR2.54-WI-5P [mm] "弯脚排针，5脚"
pads (5):
  rect 1.7x1.7 hole 0.9: 1(-5.08,0)
  round 1.7 hole 0.9: 2(-2.54,0) 3(0,0) 4(2.54,0) 5(5.08,0)
Top Overlay:
  lines w0.2: -6.35,-1.905 -5.715,-1.27 ; -5.428,-2.54 -5.428,-7.332 -5.005,-7.755 -4.581,-7.332 -4.572,-7.323 ; -4.581,-7.323 -4.581,-2.54 ; -2.888,-2.54 -2.888,-7.332 -2.465,-7.755 -2.041,-7.332 ; -2.041,-7.323 -2.041,-2.54 ; -0.348,-2.54 -0.348,-7.332 0.075,-7.755 0.499,-7.332 ; 0.499,-7.323 0.499,-2.54 ; 2.192,-2.54 2.192,-7.332 2.615,-7.755 3.039,-7.332 ; 3.039,-7.323 3.039,-2.54 ; 4.732,-2.54 4.732,-7.332 5.155,-7.755 5.579,-7.332 ; 5.579,-7.323 5.579,-2.54 ; -6.35,-2.54 -6.35,-1.143 -4.572,-1.143 6.35,-1.143 6.35,-2.54 -6.35,-2.54
3D body: height 4.85, standoff -3, extent 3.81,-7.77 6.35,1.27
3D body: height 4.85, standoff -3, extent 1.27,-7.77 3.81,1.27
3D body: height 4.85, standoff -3, extent -1.27,-7.77 1.27,1.27
3D body: height 4.85, standoff -3, extent -3.81,-7.77 -1.27,1.27
3D body: height 4.85, standoff -3, extent -6.35,-7.77 -3.81,1.27

## HDR2.54-WI-6P [mm] "弯脚排针，6脚"
pads (6):
  rect 1.7x1.7 hole 0.9: 1(-6.35,0)
  round 1.7 hole 0.9: 2(-3.81,0) 3(-1.27,0) 4(1.27,0) 5(3.81,0) 6(6.35,0)
Top Overlay:
  lines w0.2: -7.62,-1.905 -6.985,-1.27 ; -6.698,-2.54 -6.698,-7.332 -6.275,-7.755 -5.851,-7.332 -5.842,-7.323 ; -5.851,-7.323 -5.851,-2.54 ; -4.158,-2.54 -4.158,-7.332 -3.735,-7.755 -3.311,-7.332 ; -3.311,-7.323 -3.311,-2.54 ; -1.618,-2.54 -1.618,-7.332 -1.195,-7.755 -0.771,-7.332 ; -0.771,-7.323 -0.771,-2.54 ; 0.922,-2.54 0.922,-7.332 1.345,-7.755 1.769,-7.332 ; 1.769,-7.323 1.769,-2.54 ; 3.462,-2.54 3.462,-7.332 3.885,-7.755 4.309,-7.332 ; 4.309,-7.323 4.309,-2.54 ; 6.002,-2.54 6.002,-7.332 6.425,-7.755 6.849,-7.332 ; 6.849,-7.323 6.849,-2.54 ; -7.62,-2.54 7.62,-2.54 7.62,-1.143 -5.842,-1.143 -7.62,-1.143 -7.62,-2.54
3D body: height 4.85, standoff -3, extent -7.62,-7.77 -5.08,1.27
3D body: height 4.85, standoff -3, extent -5.08,-7.77 -2.54,1.27
3D body: height 4.85, standoff -3, extent -2.54,-7.77 0,1.27
3D body: height 4.85, standoff -3, extent 0,-7.77 2.54,1.27
3D body: height 4.85, standoff -3, extent 2.54,-7.77 5.08,1.27
3D body: height 4.85, standoff -3, extent 5.08,-7.77 7.62,1.27

## HDR2.54-WI-7P [mm] "弯脚排针，7脚"
pads (7):
  rect 1.7x1.7 hole 0.9: 1(-7.62,0)
  round 1.7 hole 0.9: 2(-5.08,0) 3(-2.54,0) 4(0,0) 5(2.54,0) 6(5.08,0) 7(7.62,0)
Top Overlay:
  lines w0.2: -8.89,-1.905 -8.255,-1.27 ; -7.968,-2.54 -7.968,-7.332 -7.545,-7.755 -7.121,-7.332 -7.112,-7.323 ; -7.121,-7.323 -7.121,-2.54 ; -5.428,-2.54 -5.428,-7.332 -5.005,-7.755 -4.581,-7.332 ; -4.581,-7.323 -4.581,-2.54 ; -2.888,-2.54 -2.888,-7.332 -2.465,-7.755 -2.041,-7.332 ; -2.041,-7.323 -2.041,-2.54 ; -0.348,-2.54 -0.348,-7.332 0.075,-7.755 0.499,-7.332 ; 0.499,-7.323 0.499,-2.54 ; 2.192,-2.54 2.192,-7.332 2.615,-7.755 3.039,-7.332 ; 3.039,-7.323 3.039,-2.54 ; 4.732,-2.54 4.732,-7.332 5.155,-7.755 5.579,-7.332 ; 5.579,-7.323 5.579,-2.54 ; 7.272,-2.54 7.272,-7.332 7.695,-7.755 8.119,-7.332 ; 8.119,-7.323 8.119,-2.54 ; -8.89,-2.54 8.89,-2.54 8.89,-1.143 -7.112,-1.143 -8.89,-1.143 -8.89,-2.54
3D body: height 4.85, standoff -3, extent -8.89,-7.77 -6.35,1.27
3D body: height 4.85, standoff -3, extent -6.35,-7.77 -3.81,1.27
3D body: height 4.85, standoff -3, extent -3.81,-7.77 -1.27,1.27
3D body: height 4.85, standoff -3, extent -1.27,-7.77 1.27,1.27
3D body: height 4.85, standoff -3, extent 1.27,-7.77 3.81,1.27
3D body: height 4.85, standoff -3, extent 3.81,-7.77 6.35,1.27
3D body: height 4.85, standoff -3, extent 6.35,-7.77 8.89,1.27

## HDR2.54-WI-8P [mm] "弯脚排针，8脚"
pads (8):
  rect 1.7x1.7 hole 0.9: 1(-8.89,0)
  round 1.7 hole 0.9: 2(-6.35,0) 3(-3.81,0) 4(-1.27,0) 5(1.27,0) 6(3.81,0) 7(6.35,0) 8(8.89,0)
Top Overlay:
  lines w0.2: -10.16,-1.905 -9.525,-1.27 ; -9.238,-2.54 -9.238,-7.332 -8.815,-7.755 -8.391,-7.332 -8.382,-7.323 ; -8.391,-7.323 -8.391,-2.54 ; -6.698,-2.54 -6.698,-7.332 -6.275,-7.755 -5.851,-7.332 ; -5.851,-7.323 -5.851,-2.54 ; -4.158,-2.54 -4.158,-7.332 -3.735,-7.755 -3.311,-7.332 ; -3.311,-7.323 -3.311,-2.54 ; -1.618,-2.54 -1.618,-7.332 -1.195,-7.755 -0.771,-7.332 ; -0.771,-7.323 -0.771,-2.54 ; 0.922,-2.54 0.922,-7.332 1.345,-7.755 1.769,-7.332 ; 1.769,-7.323 1.769,-2.54 ; 3.462,-2.54 3.462,-7.332 3.885,-7.755 4.309,-7.332 ; 4.309,-7.323 4.309,-2.54 ; 6.002,-2.54 6.002,-7.332 6.425,-7.755 6.849,-7.332 ; 6.849,-7.323 6.849,-2.54 ; 8.542,-2.54 8.542,-7.332 8.965,-7.755 9.389,-7.332 ; 9.389,-7.323 9.389,-2.54 ; -10.16,-2.54 -10.16,-1.143 -8.382,-1.143 10.16,-1.143 10.16,-2.54 -10.16,-2.54
3D body: height 4.85, standoff -3, extent -10.16,-7.77 -7.62,1.27
3D body: height 4.85, standoff -3, extent -7.62,-7.77 -5.08,1.27
3D body: height 4.85, standoff -3, extent -5.08,-7.77 -2.54,1.27
3D body: height 4.85, standoff -3, extent -2.54,-7.77 0,1.27
3D body: height 4.85, standoff -3, extent 0,-7.77 2.54,1.27
3D body: height 4.85, standoff -3, extent 2.54,-7.77 5.08,1.27
3D body: height 4.85, standoff -3, extent 5.08,-7.77 7.62,1.27
3D body: height 4.85, standoff -3, extent 7.62,-7.77 10.16,1.27

## HDR2.54-WI-9P [mm] "弯脚排针，9脚"
pads (9):
  rect 1.7x1.7 hole 0.9: 1(-10.16,0)
  round 1.7 hole 0.9: 2(-7.62,0) 3(-5.08,0) 4(-2.54,0) 5(0,0) 6(2.54,0) 7(5.08,0) 8(7.62,0) 9(10.16,0)
Top Overlay:
  lines w0.2: -11.43,-1.905 -10.795,-1.27 ; -10.508,-2.54 -10.508,-7.332 -10.085,-7.755 -9.661,-7.332 -9.652,-7.323 ; -9.661,-7.323 -9.661,-2.54 ; -7.968,-2.54 -7.968,-7.332 -7.545,-7.755 -7.121,-7.332 ; -7.121,-7.323 -7.121,-2.54 ; -5.428,-2.54 -5.428,-7.332 -5.005,-7.755 -4.581,-7.332 ; -4.581,-7.323 -4.581,-2.54 ; -2.888,-2.54 -2.888,-7.332 -2.465,-7.755 -2.041,-7.332 ; -2.041,-7.323 -2.041,-2.54 ; -0.348,-2.54 -0.348,-7.332 0.075,-7.755 0.499,-7.332 ; 0.499,-7.323 0.499,-2.54 ; 2.192,-2.54 2.192,-7.332 2.615,-7.755 3.039,-7.332 ; 3.039,-7.323 3.039,-2.54 ; 4.732,-2.54 4.732,-7.332 5.155,-7.755 5.579,-7.332 ; 5.579,-7.323 5.579,-2.54 ; 7.272,-2.54 7.272,-7.332 7.695,-7.755 8.119,-7.332 ; 8.119,-7.323 8.119,-2.54 ; 9.812,-2.54 9.812,-7.332 10.235,-7.755 10.659,-7.332 ; 10.659,-7.323 10.659,-2.54 ; -11.43,-2.54 -11.43,-1.143 -9.652,-1.143 11.43,-1.143 11.43,-2.54 -11.43,-2.54
3D body: height 4.85, standoff -3, extent -11.43,-7.77 -8.89,1.27
3D body: height 4.85, standoff -3, extent -8.89,-7.77 -6.35,1.27
3D body: height 4.85, standoff -3, extent -6.35,-7.77 -3.81,1.27
3D body: height 4.85, standoff -3, extent -3.81,-7.77 -1.27,1.27
3D body: height 4.85, standoff -3, extent -1.27,-7.77 1.27,1.27
3D body: height 4.85, standoff -3, extent 1.27,-7.77 3.81,1.27
3D body: height 4.85, standoff -3, extent 3.81,-7.77 6.35,1.27
3D body: height 4.85, standoff -3, extent 6.35,-7.77 8.89,1.27
3D body: height 4.85, standoff -3, extent 8.89,-7.77 11.43,1.27

## HDR2.54-WI-10P [mm] "弯脚排针，10脚"
pads (10):
  rect 1.7x1.7 hole 0.9: 1(-11.43,0)
  round 1.7 hole 0.9: 2(-8.89,0) 3(-6.35,0) 4(-3.81,0) 5(-1.27,0) 6(1.27,0) 7(3.81,0) 8(6.35,0) 9(8.89,0) 10(11.43,0)
Top Overlay:
  lines w0.2: -12.7,-1.905 -12.065,-1.27 ; -11.778,-2.54 -11.778,-7.332 -11.355,-7.755 -10.931,-7.332 -10.922,-7.323 ; -10.931,-7.323 -10.931,-2.54 ; -9.238,-2.54 -9.238,-7.332 -8.815,-7.755 -8.391,-7.332 ; -8.391,-7.323 -8.391,-2.54 ; -6.698,-2.54 -6.698,-7.332 -6.275,-7.755 -5.851,-7.332 ; -5.851,-7.323 -5.851,-2.54 ; -4.158,-2.54 -4.158,-7.332 -3.735,-7.755 -3.311,-7.332 ; -3.311,-7.323 -3.311,-2.54 ; -1.618,-2.54 -1.618,-7.332 -1.195,-7.755 -0.771,-7.332 ; -0.771,-7.323 -0.771,-2.54 ; 0.922,-2.54 0.922,-7.332 1.345,-7.755 1.769,-7.332 ; 1.769,-7.323 1.769,-2.54 ; 3.462,-2.54 3.462,-7.332 3.885,-7.755 4.309,-7.332 ; 4.309,-7.323 4.309,-2.54 ; 6.002,-2.54 6.002,-7.332 6.425,-7.755 6.849,-7.332 ; 6.849,-7.323 6.849,-2.54 ; 8.542,-2.54 8.542,-7.332 8.965,-7.755 9.389,-7.332 ; 9.389,-7.323 9.389,-2.54 ; 11.082,-2.54 11.082,-7.332 11.505,-7.755 11.929,-7.332 ; 11.929,-7.323 11.929,-2.54 ; -12.7,-2.54 -12.7,-1.143 -10.922,-1.143 12.7,-1.143 12.7,-2.54 -12.7,-2.54
3D body: height 4.85, standoff -3, extent -12.7,-7.77 -10.16,1.27
3D body: height 4.85, standoff -3, extent -10.16,-7.77 -7.62,1.27
3D body: height 4.85, standoff -3, extent -7.62,-7.77 -5.08,1.27
3D body: height 4.85, standoff -3, extent -5.08,-7.77 -2.54,1.27
3D body: height 4.85, standoff -3, extent -2.54,-7.77 0,1.27
3D body: height 4.85, standoff -3, extent 0,-7.77 2.54,1.27
3D body: height 4.85, standoff -3, extent 2.54,-7.77 5.08,1.27
3D body: height 4.85, standoff -3, extent 5.08,-7.77 7.62,1.27
3D body: height 4.85, standoff -3, extent 7.62,-7.77 10.16,1.27
3D body: height 4.85, standoff -3, extent 10.16,-7.77 12.7,1.27

## HDR2.54-WI-11P [mm] "弯脚排针，11脚"
pads (11):
  rect 1.7x1.7 hole 0.9: 1(-12.7,0)
  round 1.7 hole 0.9: 2(-10.16,0) 3(-7.62,0) 4(-5.08,0) 5(-2.54,0) 6(0,0) 7(2.54,0) 8(5.08,0) 9(7.62,0) 10(10.16,0) 11(12.7,0)
Top Overlay:
  lines w0.2: -13.97,-1.905 -13.335,-1.27 ; -13.048,-2.54 -13.048,-7.332 -12.625,-7.755 -12.201,-7.332 -12.192,-7.323 ; -12.201,-7.323 -12.201,-2.54 ; -10.508,-2.54 -10.508,-7.332 -10.085,-7.755 -9.661,-7.332 ; -9.661,-7.323 -9.661,-2.54 ; -7.968,-2.54 -7.968,-7.332 -7.545,-7.755 -7.121,-7.332 ; -7.121,-7.323 -7.121,-2.54 ; -5.428,-2.54 -5.428,-7.332 -5.005,-7.755 -4.581,-7.332 ; -4.581,-7.323 -4.581,-2.54 ; -2.888,-2.54 -2.888,-7.332 -2.465,-7.755 -2.041,-7.332 ; -2.041,-7.323 -2.041,-2.54 ; -0.348,-2.54 -0.348,-7.332 0.075,-7.755 0.499,-7.332 ; 0.499,-7.323 0.499,-2.54 ; 2.192,-2.54 2.192,-7.332 2.615,-7.755 3.039,-7.332 ; 3.039,-7.323 3.039,-2.54 ; 4.732,-2.54 4.732,-7.332 5.155,-7.755 5.579,-7.332 ; 5.579,-7.323 5.579,-2.54 ; 7.272,-2.54 7.272,-7.332 7.695,-7.755 8.119,-7.332 ; 8.119,-7.323 8.119,-2.54 ; 9.812,-2.54 9.812,-7.332 10.235,-7.755 10.659,-7.332 ; 10.659,-7.323 10.659,-2.54 ; 12.352,-2.54 12.352,-7.332 12.775,-7.755 13.199,-7.332 ; 13.199,-7.323 13.199,-2.54 ; -13.97,-2.54 13.97,-2.54 13.97,-1.143 -12.192,-1.143 -13.97,-1.143 -13.97,-2.54
3D body: height 4.85, standoff -3, extent 11.43,-7.77 13.97,1.27
3D body: height 4.85, standoff -3, extent 8.89,-7.77 11.43,1.27
3D body: height 4.85, standoff -3, extent 6.35,-7.77 8.89,1.27
3D body: height 4.85, standoff -3, extent 3.81,-7.77 6.35,1.27
3D body: height 4.85, standoff -3, extent 1.27,-7.77 3.81,1.27
3D body: height 4.85, standoff -3, extent -1.27,-7.77 1.27,1.27
3D body: height 4.85, standoff -3, extent -3.81,-7.77 -1.27,1.27
3D body: height 4.85, standoff -3, extent -6.35,-7.77 -3.81,1.27
3D body: height 4.85, standoff -3, extent -8.89,-7.77 -6.35,1.27
3D body: height 4.85, standoff -3, extent -11.43,-7.77 -8.89,1.27
3D body: height 4.85, standoff -3, extent -13.97,-7.77 -11.43,1.27